# Altium footprint library QVAR6_VC_Backpack.PcbLib: 11 footprints
Each footprint in its own frame and in the unit in brackets; x right, y up, seen from the top. Pads: shape width x height; smd on the part's side, far side on the other; paste and mask are expansions set on the pad; w line width, h text height; cw(c..) or ccw(c..) is an arc to the next point about the centre after c.
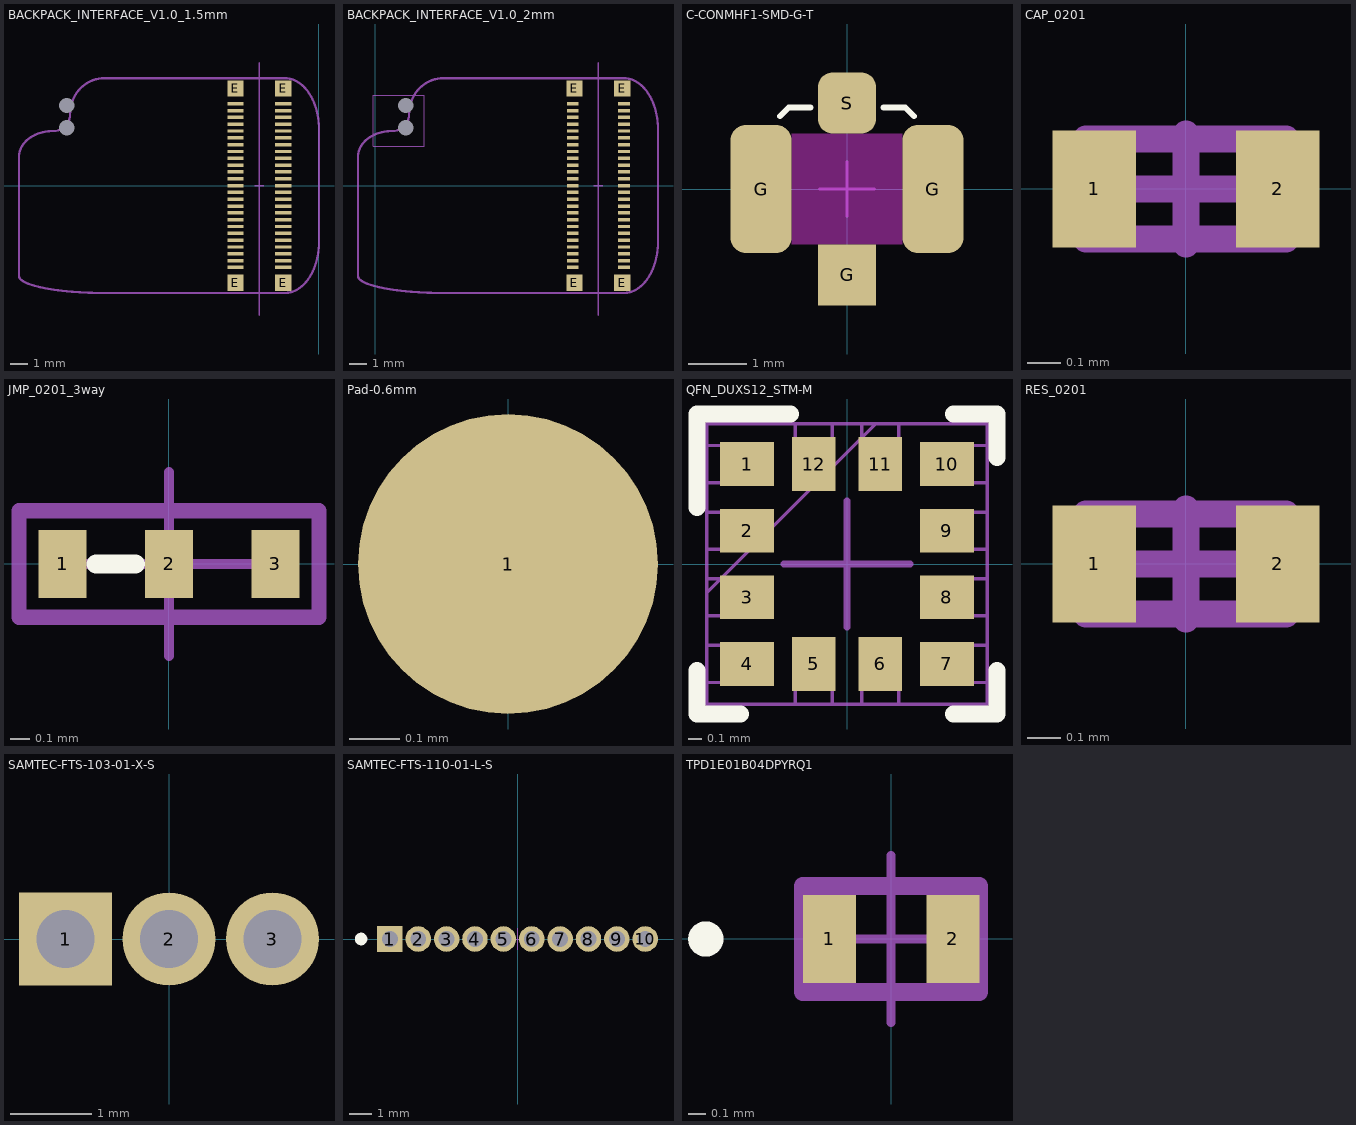
[diagram p0: the footprints below, top view; thin cyan lines are the x and y axes]

## BACKPACK_INTERFACE_V1.0_1.5mm [mm]
pads (56):
  rect 0.95x0.2 smd: 1(-4.9,4.8) 2(-4.9,4.4) 3(-4.9,4) 4(-4.9,3.6) 5(-4.9,3.2) 6(-4.9,2.8) 7(-4.9,2.4) 8(-4.9,2) 9(-4.9,1.6) 10(-4.9,1.2) 11(-4.9,0.8) 12(-4.9,0.4) 13(-4.9,0) 14(-4.9,-0.4) 15(-4.9,-0.8) 16(-4.9,-1.2) 17(-4.9,-1.6) 18(-4.9,-2) 19(-4.9,-2.4) 20(-4.9,-2.8) 21(-4.9,-3.2) 22(-4.9,-3.6) 23(-4.9,-4) 24(-4.9,-4.4) 25(-4.9,-4.8) 26(-2.1,-4.8) 27(-2.1,-4.4) 28(-2.1,-4) 29(-2.1,-3.6) 30(-2.1,-3.2) 31(-2.1,-2.8) 32(-2.1,-2.4) 33(-2.1,-2) 34(-2.1,-1.6) 35(-2.1,-1.2) 36(-2.1,-0.8) 37(-2.1,-0.4) 38(-2.1,0) 39(-2.1,0.4) 40(-2.1,0.8) 41(-2.1,1.2) 42(-2.1,1.6) 43(-2.1,2) 44(-2.1,2.4) 45(-2.1,2.8) 46(-2.1,3.2) 47(-2.1,3.6) 48(-2.1,4) 49(-2.1,4.4) 50(-2.1,4.8)
  round 0 hole 0.9 unplated: E(-14.8,3.4) E(-14.8,4.7)
  rect 0.95x0.95 smd: E(-4.9,-5.7) E(-4.9,5.7) E(-2.1,-5.7) E(-2.1,5.7)
Top Component Outline:
  drawing of 509 lines, arcs and shapes, not listed
Top Component Center:
  lines w0.08: -3.76,0 -3.24,0 ; -3.5,-0.26 -3.5,0.26
3D body "DF40B-50DS.stp": height 1.45, standoff 0, extent -5.19,-6.3 -1.81,6.3
3D body "Standoff_1.5mm.STEP": height 2.4, standoff -0.8, extent -16.6,2.4 -13.8,5.2

## BACKPACK_INTERFACE_V1.0_2mm [mm]
pads (56):
  rect 0.7x0.2 smd: 1(11.6,4.8) 2(11.6,4.4) 3(11.6,4) 4(11.6,3.6) 5(11.6,3.2) 6(11.6,2.8) 7(11.6,2.4) 8(11.6,2) 9(11.6,1.6) 10(11.6,1.2) 11(11.6,0.8) 12(11.6,0.4) 13(11.6,0) 14(11.6,-0.4) 15(11.6,-0.8) 16(11.6,-1.2) 17(11.6,-1.6) 18(11.6,-2) 19(11.6,-2.4) 20(11.6,-2.8) 21(11.6,-3.2) 22(11.6,-3.6) 23(11.6,-4) 24(11.6,-4.4) 25(11.6,-4.8) 26(14.6,-4.8) 27(14.6,-4.4) 28(14.6,-4) 29(14.6,-3.6) 30(14.6,-3.2) 31(14.6,-2.8) 32(14.6,-2.4) 33(14.6,-2) 34(14.6,-1.6) 35(14.6,-1.2) 36(14.6,-0.8) 37(14.6,-0.4) 38(14.6,0) 39(14.6,0.4) 40(14.6,0.8) 41(14.6,1.2) 42(14.6,1.6) 43(14.6,2) 44(14.6,2.4) 45(14.6,2.8) 46(14.6,3.2) 47(14.6,3.6) 48(14.6,4) 49(14.6,4.4) 50(14.6,4.8)
  round 0 hole 0.9 unplated: E(1.8,3.4) E(1.8,4.7)
  rect 0.95x0.95 smd: E(11.7,-5.7) E(11.7,5.7) E(14.5,-5.7) E(14.5,5.7)
Top Component Outline:
  drawing of 513 lines, arcs and shapes, not listed
Top Component Center:
  lines w0.08: 12.84,0 13.36,0 ; 13.1,-0.26 13.1,0.26
3D body "DF40C(2.0)-50DS.stp": height 1.92, standoff -0.03, extent 11.41,-6.3 14.79,6.3
3D body "Standoff_2mm.STEP": height 2.9, standoff -0.8, extent 0,2.4 2.8,5.2

## C-CONMHF1-SMD-G-T [mm]
pads (4):
  rrect50% 1.05x2.2 smd: G(-1.475,0) G(1.475,0)
  rect 1x1.05 smd: G(0,-1.475)
  rrect50% 1x1.05 smd: S(0,1.475)
Top Layer keep-out:
  rectangle: -0.95,-0.95 0.95,0.95
Top Overlay:
  lines w0.1: -1.15,1.25 -1,1.4 -0.625,1.4 ; 0.625,1.4 1,1.4 1.15,1.25
Top Component Center:
  lines w0.05: -0.475,0 0.475,0 ; 0,-0.475 0,0.475
3D body "CONMHF1-SMD-G-T--3DModel-STEP-56544.STEP": height 1.31, standoff 0, extent -1.5,-1.55 1.5,1.55

## CAP_0201 [mm]
height 0.33
pads (2):
  rect 0.25x0.35 smd: 1(-0.275,0) 2(0.275,0)
Top Assembly (Mech10):
  lines w0.08: -0.3,-0.15 0.3,-0.15 0.3,0.15 -0.3,0.15 -0.3,-0.15
Top Component Center:
  lines w0.08: -0.165,0 0.165,0 ; -0.05,0 0.05,0 ; 0,-0.165 0,0.165 ; 0,-0.05 0,0.05
3D body "CAP 0201.STEP": height 0.3, standoff 0, extent -0.3,-0.15 0.3,0.15

## JMP_0201_3way [mm] "Jumper 3 pins 0201x2"
height 0.6
pads (3):
  rect 0.25x0.35 smd: 1(-0.55,0) 2(0,0) 3(0.55,0)
Top Overlay:
  lines w0.1: -0.375,0 -0.175,0
Top Component Outline:
  lines w0.05: -0.775,-0.275 0.775,-0.275 0.775,0.275 -0.775,0.275 -0.775,-0.275
Top Assembly (Mech10):
  lines w0.08: -0.225,-0.275 0.775,-0.275 0.775,0.275 -0.225,0.275 ; 0.225,-0.275 -0.775,-0.275 -0.775,0.275 0.225,0.275
Top Component Center:
  lines w0.05: -0.475,0 0.475,0 ; 0,-0.475 0,0.475
3D body "R_0201_0603Metric.step": height 0.22, standoff -0.01, extent -0.575,-0.15 0.025,0.15

## Pad-0.6mm [mm] "SMT Test Pad"
pads (1):
  round 0.6 smd paste-5: 1(0,0)

## QFN_DUXS12_STM-M [mil]
pads (12):
  rect 15.94x12.97 smd paste+0 mask+0: 1(-29.5,29.54) 2(-29.5,9.85) 3(-29.5,-9.85) 4(-29.5,-29.54) 7(29.5,-29.54) 8(29.5,-9.85) 9(29.5,9.85) 10(29.5,29.54)
  rect 12.97x15.94 smd paste+0 mask+0: 5(-9.85,-29.5) 6(9.85,-29.5) 11(9.85,29.5) 12(-9.85,29.5)
Top Overlay:
  lines w5: -44.34,-31.5 -44.34,-44.29 -31.5,-44.29 ; -44.29,16.73 -44.29,44.34 -16.73,44.34 ; 31.5,-44.34 44.29,-44.34 44.29,-31.5 ; 31.5,44.29 44.34,44.29 44.34,31.5
Top Assembly (Mech10):
  lines w1: -41.5,-8.5 8.5,41.5 ; -41.5,-41.5 41.5,-41.5 41.5,41.5 -41.5,41.5 -41.5,-41.5 ; -41.5,-35.03 -35.5,-35.03 -35.5,-24.04 -41.5,-24.04 -41.5,-35.03 ; -41.5,-15.35 -35.5,-15.35 -35.5,-4.34 -41.5,-4.34 -41.5,-15.35 ; -41.5,4.34 -35.5,4.34 -35.5,15.35 -41.5,15.35 -41.5,4.34 ; -41.5,24.04 -35.5,24.04 -35.5,35.03 -41.5,35.03 -41.5,24.04 ; -15.35,-41.5 -4.34,-41.5 -4.34,-35.5 -15.35,-35.5 -15.35,-41.5 ; -15.35,35.5 -4.34,35.5 -4.34,41.5 -15.35,41.5 -15.35,35.5 ; 4.34,-41.5 4.34,-35.5 15.35,-35.5 15.35,-41.5 4.34,-41.5 ; 4.34,35.5 4.34,41.5 15.35,41.5 15.35,35.5 4.34,35.5 ; 35.5,-35.03 35.5,-24.04 41.5,-24.04 41.5,-35.03 35.5,-35.03 ; 35.5,-15.35 41.5,-15.35 41.5,-4.34 35.5,-4.34 35.5,-15.35 ; 35.5,4.34 35.5,15.35 41.5,15.35 41.5,4.34 35.5,4.34 ; 35.5,24.04 41.5,24.04 41.5,35.03 35.5,35.03 35.5,24.04
Top Component Center:
  lines w1.97: -18.7,0 18.7,0 ; 0,-18.7 0,18.7
3D body "QFN_DUXS12_STM.step": height 29.09, standoff 0, extent -41.5,-41.5 41.5,41.5

## RES_0201 [mm] "Chip Resistor, 2-Leads, Body 0.60x0.30mm, IPC Medium Density"
height 0.26
pads (2):
  rect 0.25x0.35 smd: 1(-0.275,0) 2(0.275,0)
Top Assembly (Mech10):
  lines w0.08: -0.3,-0.15 0.3,-0.15 0.3,0.15 -0.3,0.15 -0.3,-0.15
Top Component Center:
  lines w0.08: -0.165,0 0.165,0 ; -0.05,0 0.05,0 ; 0,-0.165 0,0.165 ; 0,-0.05 0,0.05
3D body "R_0201_0603Metric.step": height 0.22, standoff -0.01, extent -0.3,-0.15 0.3,0.15

## SAMTEC-FTS-103-01-X-S [mil]
pads (3):
  rect 45x45 hole 27.95 mask+0: 1(-50,0)
  round 45 hole 27.95 mask+0: 2(0,0) 3(50,0)
Top Component Center:
  lines w1.97: -18.7,0 18.7,0 ; 0,-18.7 0,18.7
3D body "FTS-103-01-L-S.stp": height 154, standoff -90, extent -75,-42.5 75,42.5

## SAMTEC-FTS-110-01-L-S [mil]
pads (10):
  rect 45x45 hole 27.95 mask+0: 1(-225,0)
  round 45 hole 27.95 mask+0: 2(-175,0) 3(-125,0) 4(-75,0) 5(-25,0) 6(25,0) 7(75,0) 8(125,0) 9(175,0) 10(225,0)
Top Overlay:
  circle w11.02: c-275.59,0 r5.51
Top 3D Body:
  lines w3.94: -232.99,-7.99 -232.99,7.99 -217.01,7.99 -217.01,-7.99 -232.99,-7.99
Top Component Center:
  lines w1.97: -18.7,0 18.7,0 ; 0,-18.7 0,18.7
3D body "FTS-110-01-L-S.stp": height 154, standoff -90, extent -250,-42.5 250,42.5

## TPD1E01B04DPYRQ1 [mm]
pads (2):
  rect 0.3x0.5 smd: 1(-0.35,0) 2(0.35,0)
Top Overlay:
  lines w0.1: -1.1,0 ccw(c-1.05,0) -1,0 ccw(c-1.05,0) -1.1,0
Top Assembly (Mech10):
  lines w0.1: -0.5,-0.3 0.5,-0.3 0.5,0.3 -0.5,0.3 -0.5,-0.3
Top Component Center:
  lines w0.05: -0.475,0 0.475,0 ; 0,-0.475 0,0.475
3D body "TPD1E01B04DPYRQ1.stp": height 0.55, standoff 0, extent -0.5,-0.3 0.5,0.3